# EAGLE library part PLC-MICRO32 (library domonetic)
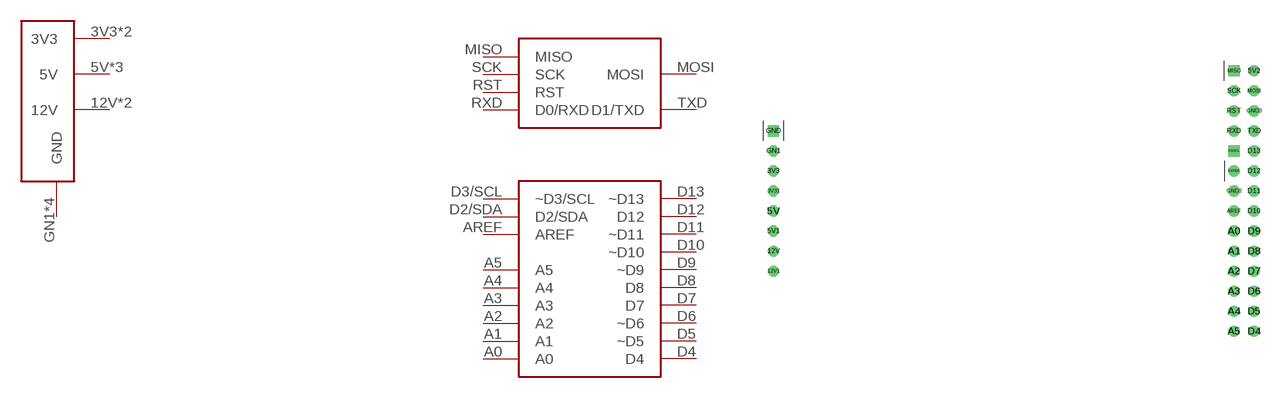
[diagram p17: symbol with the pads of PLC-MICRO32U; footprint PLC-MICRO32U]

Designator prefix -; gates G$1=PLC-MICRO32UHOLE G$2=PLC-MICRO32UPWR

## PLC-MICRO32  [PLC-MICRO32U]
3V3  G$2:3V3
3V31  G$2:3V3
5V  G$2:5V
5V1  G$2:5V
5V2  G$2:5V
12V  G$2:12V
12V1  G$2:12V
A0  G$1:A0
A1  G$1:A1
A2  G$1:A2
A3  G$1:A3
A4  G$1:A4
A5  G$1:A5
AREF  G$1:AREF
D2/SDA  G$1:D2/SDA
D3/SCL  G$1:~D3/SCL
D4  G$1:D4
D5  G$1:~D5
D6  G$1:~D6
D7  G$1:D7
D8  G$1:D8
D9  G$1:~D9
D10  G$1:~D10
D11  G$1:~D11
D12  G$1:D12
D13  G$1:~D13
GN1  G$2:GND
GND  G$2:GND
GND2  G$2:GND
GND3  G$2:GND
MISO  G$1:MISO
MOSI  G$1:MOSI
RST  G$1:RST
RXD  G$1:D0/RXD
SCK  G$1:SCK
TXD  G$1:D1/TXD

## Footprint PLC-MICRO32U (pad centres in mm)
drill 0.8 pad 1.422: 3V3 2.54,22.86; 3V31 2.54,20.32; 5V 2.54,17.78; 5V1 2.54,15.24; 5V2 63.5,35.56; 12V 2.54,12.7; 12V1 2.54,10.16; A0 60.96,15.24; A1 60.96,12.7; A2 60.96,10.16; A3 60.96,7.62; A4 60.96,5.08; A5 60.96,2.54; AREF 60.96,17.78; D2/SDA 60.96,22.86; D4 63.5,2.54; D5 63.5,5.08; D6 63.5,7.62; D7 63.5,10.16; D8 63.5,12.7; D9 63.5,15.24; D10 63.5,17.78; D11 63.5,20.32; D12 63.5,22.86; D13 63.5,25.4; GN1 2.54,25.4; GND2 60.96,20.32; GND3 63.5,30.48; MOSI 63.5,33.02; RST 60.96,30.48; RXD 60.96,27.94; SCK 60.96,33.02; TXD 63.5,27.94
drill 0.8 pad 1.422 square: D3/SCL 60.96,25.4; GND 2.54,27.94; MISO 60.96,35.56